# EAGLE library part 74X4066 (library usbxlater)
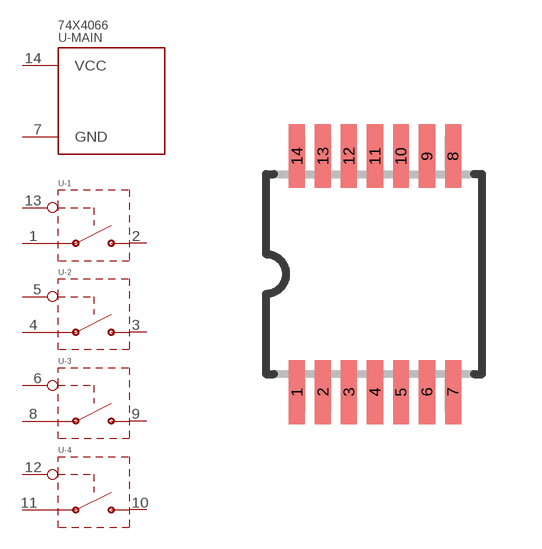
[diagram p6: symbol with the pads of TSSOP14; footprint TSSOP14]

Designator prefix U; gates -MAIN=ANALOG-SW-MAIN -1=ANALOG-SW-ELEMENT -2=ANALOG-SW-ELEMENT -3=ANALOG-SW-ELEMENT -4=ANALOG-SW-ELEMENT

## 74X4066-TSSOP14  [TSSOP14]
1  -1:Y
2  -1:Z
3  -2:Z
4  -2:Y
5  -2:NE  in
6  -3:NE  in
7  -MAIN:GND
8  -3:Y
9  -3:Z
10  -4:Z
11  -4:Y
12  -4:NE  in
13  -1:NE  in
14  -MAIN:VCC

## Footprint TSSOP14 (pad centres in mm)
smd 0.4 x 1.6: 1 -1.95,-2.95; 2 -1.3,-2.95; 3 -0.65,-2.95; 4 0,-2.95; 5 0.65,-2.95; 6 1.3,-2.95; 7 1.95,-2.95; 8 1.95,2.95; 9 1.3,2.95; 10 0.65,2.95; 11 0,2.95; 12 -0.65,2.95; 13 -1.3,2.95; 14 -1.95,2.95